# Altium integrated library TBP02R1-381-02BE.IntLib: 1 symbol
Pins are listed as number, name and electrical type; pins without a type are passive.

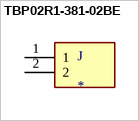
[diagram p0: symbol TBP02R1-381-02BE]

## TBP02R1-381-02BE
designator J
2~24 Poles, Pluggable,Receptacle, Horizontal, 3.81 Pitch, Terminal Block Connector; MP: TBP02R1-381-02BE; MF: CUI Devices; Package: None; CUI_purchase_URL: https://www.cuidevices.com/product/interconnect/connectors/terminal-blocks/tbp02r1-381-series?utm_source=snapeda.com&utm_medium=referral&utm_campaign=snapedaBOM; Price: None; Availability: Unavailable; Value: *; SnapEDA_Link: https://www.snapeda.com/parts/TBP02R1-381-02BE/CUI%20Devices/view-part/3604716/?ref=snap
footprint CUI_TBP02R1-381-02BE
pins: 1, 2